# Altium schematic symbol library MAX17220.SchLib: 1 symbol
Pins are listed as number, name and electrical type; pins without a type are passive.

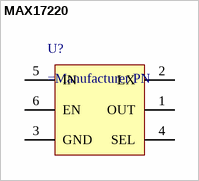
[diagram p0: symbol MAX17220]

## MAX17220
designator U?
pins: 1 OUT, 2 LX, 3 GND, 4 SEL, 5 IN, 6 EN